# EAGLE library part LT1364 (library LT1364-1365)
Dual and Quad 70MHz, 1000V/μs Op Amps Datasheet: LTC1364-1365 <http://cds.linear.com/docs/en/datasheet/13645fa.pdf>
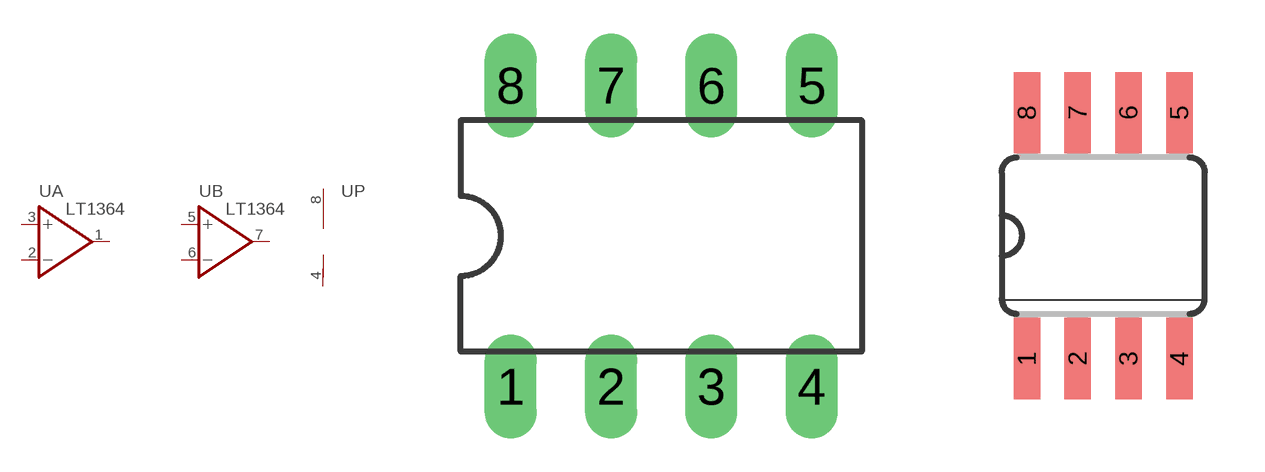
[diagram p1: symbol with the pads of PDIP8; footprints PDIP8, SO08]

Designator prefix U; gates A=OPAMP B=OPAMP P=V+-

## LT1364CN8  [PDIP8]
1  A:OUT  out
2  A:-IN  in
3  A:+IN  in
4  P:V-  pwr
5  B:+IN  in
6  B:-IN  in
7  B:OUT  out
8  P:V+  pwr

## LT1364CS8  [SO08]
Pads as for PDIP8

## Footprint PDIP8 (pad centres in mm)
Dual In Line Package
drill 0.813 long: 1 -3.81,-3.81; 2 -1.27,-3.81; 3 1.27,-3.81; 4 3.81,-3.81; 5 3.81,3.81; 6 1.27,3.81; 7 -1.27,3.81; 8 -3.81,3.81

## Footprint SO08 (pad centres in mm)
Small Outline package 150 mil
smd 0.66 x 2.032: 1 -1.905,-3.073; 2 -0.635,-3.073; 3 0.635,-3.073; 4 1.905,-3.073; 5 1.905,3.073; 6 0.635,3.073; 7 -0.635,3.073; 8 -1.905,3.073